# Altium schematic symbol library OBC_boardV1.SchLib: 97 symbols (part 2 of 2)
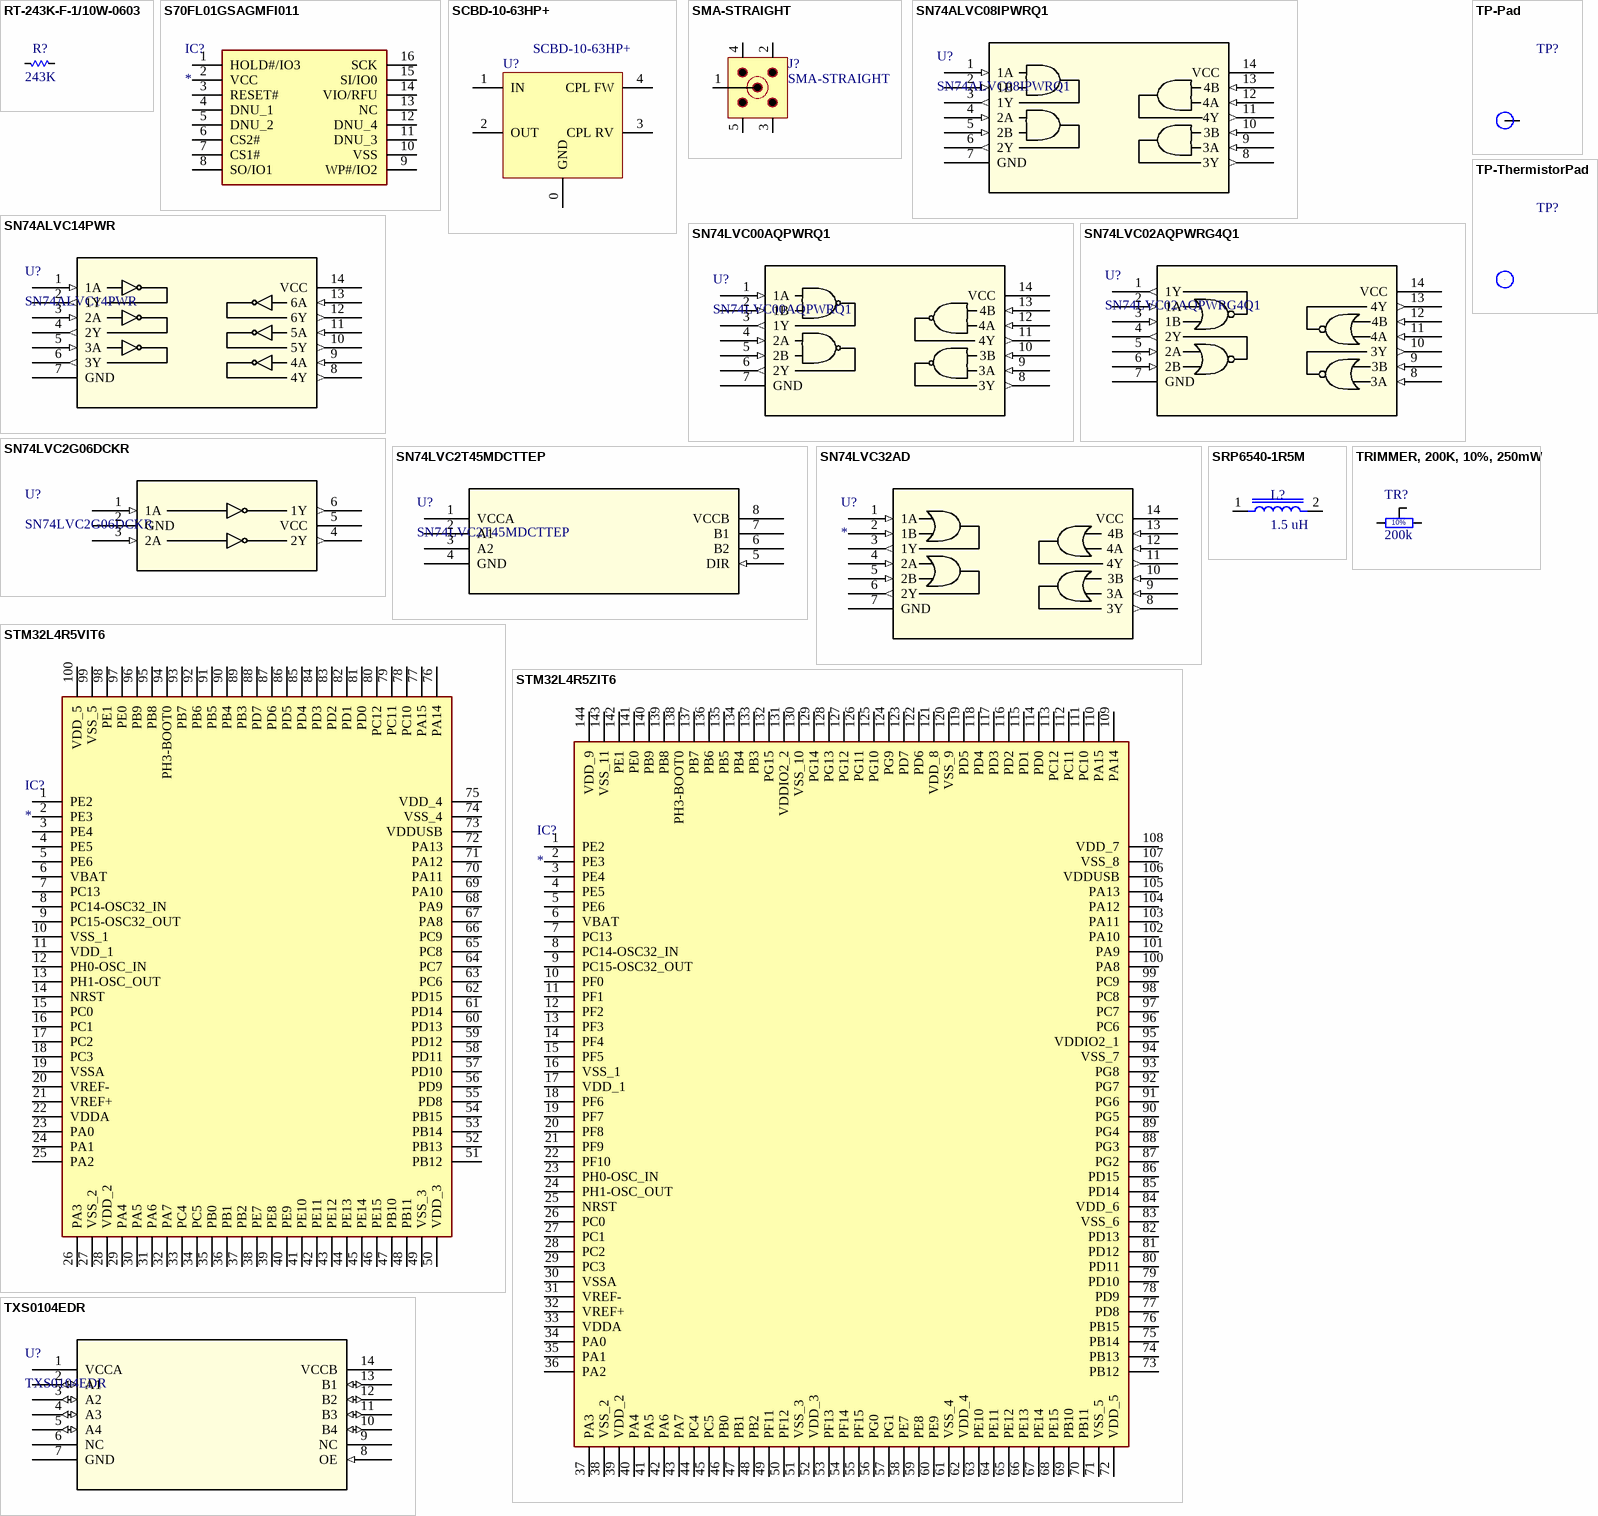
[diagram p3: symbols RT-243K-F-1/10W-0603 to TXS0104EDR]

## S70FL01GSAGMFI011
designator IC?
Integrated Circuit; Manufacturer_Name: Cypress Semiconductor; Manufacturer_Part_Number: S70FL01GSAGMFI011; Datasheet Link: http://www.cypress.com/file/233721/download; Height: 2.65mm; Mouser Part Number: 797-70FL01GSAGMFI011; Mouser Price/Stock: https://www.mouser.co.uk/ProductDetail/Cypress-Spansion/S70FL01GSAGMFI011?qs=7dLKRY2uEGfd5QhmKnP1mQ%3D%3D; Arrow Part Number: S70FL01GSAGMFI011; Arrow Price/Stock: https://www.arrow.com/en/products/s70fl01gsagmfi011/cypress-semiconductor
footprint SOIC127P1030X265-16N
pins: 1 HOLD#/IO3, 2 VCC, 3 RESET#, 4 DNU_1, 5 DNU_2, 6 CS2#, 7 CS1#, 8 SO/IO1, 9 WP#/IO2, 10 VSS, 11 DNU_3, 12 DNU_4, 13 NC, 14 VIO/RFU, 15 SI/IO0, 16 SCK

## SCBD-10-63HP+
designator U?
Bi-Directional Coupler 50 to 600MHz; Manufacturer 1: Mini-Circuit; Manufacturer Part Number 1: SCBD-10-63HP+; Supplier 1: Elexience; Supplier Part Number 1: SCBD-10-63HP+
footprint SCBD-10-63HP+
pins: 0 GND, 1 IN, 2 OUT, 3 CPL RV, 4 CPL FW

## SMA-STRAIGHT
designator J?
CONN SMA JACK STR 50 OHM PCB; Supplier 1: Digi-Key; Supplier Part Number 1: ARFX1231-ND
footprint SMA-STRAIGHT
pins: 1, 2, 3, 4, 5

## SN74ALVC08IPWRQ1
designator U?
Quadruple 2-Input Positive-AND Gate; Manufacturer: Texas Instruments; GENERIC_PART_NUMBER: SN74ALVC08-Q1; INDUSTRY_STD_PKG_TYPE: TSSOP; PIN_COUNT: 14; PACKAGE_DESIGNATOR: PW; Datasheet_URL: http://www.ti.com/lit/gpn/SN74ALVC08-Q1; FAMILY_NAME: AND GATE; Vendor: Texas Instruments; Manufacturer_Part_Number: SN74ALVC08IPWRQ1; Copyright: Copyright (C) 2021 Accelerated Designs. All rights reserved; RefDes: RefDes; Type: DEV
footprint PW14
pins: 1 1A (in), 2 1B (in), 3 1Y (out), 4 2A (in), 5 2B (in), 6 2Y (out), 7 GND (power), 8 3Y (out), 9 3A (in), 10 3B (in), 11 4Y (out), 12 4A (in), 13 4B (in), 14 VCC (power)

## SN74ALVC14PWR
designator U?
Hex Schmitt-Trigger Inverter; Manufacturer: Texas Instruments; INDUSTRY_STD_PKG_TYPE: TSSOP; FAMILY_NAME: INVERTING BUFFER/DRIVER; PIN_COUNT: 14; PACKAGE_DESIGNATOR: PW; Datasheet_URL: http://www.ti.com/lit/gpn/SN74ALVC14; GENERIC_PART_NUMBER: SN74ALVC14; Vendor: Texas Instruments; Manufacturer_Part_Number: SN74ALVC14PWR; Copyright: Copyright (C) 2021 Accelerated Designs. All rights reserved; RefDes: RefDes; Type: DEV
footprint PW14
pins: 1 1A (in), 2 1Y (out), 3 2A (in), 4 2Y (out), 5 3A (in), 6 3Y (out), 7 GND (power), 8 4Y (out), 9 4A (in), 10 5Y (out), 11 5A (in), 12 6Y (out), 13 6A (in), 14 VCC (power)

## SN74LVC00AQPWRQ1
designator U?
Automotive Catalog Quadruple 2-Input Positive-NAND Gate; Manufacturer: Texas Instruments; GENERIC_PART_NUMBER: SN74LVC00A-Q1; INDUSTRY_STD_PKG_TYPE: TSSOP; PIN_COUNT: 14; PACKAGE_DESIGNATOR: PW; Datasheet_URL: http://www.ti.com/lit/gpn/SN74LVC00A-Q1; FAMILY_NAME: NAND GATE; Vendor: Texas Instruments; Manufacturer_Part_Number: SN74LVC00AQPWRQ1; Copyright: Copyright (C) 2021 Accelerated Designs. All rights reserved; RefDes: RefDes; Type: DEV
footprint PW14
pins: 1 1A (in), 2 1B (in), 3 1Y (out), 4 2A (in), 5 2B (in), 6 2Y (out), 7 GND (power), 8 3Y (out), 9 3A (in), 10 3B (in), 11 4Y (out), 12 4A (in), 13 4B (in), 14 VCC (power)

## SN74LVC02AQPWRG4Q1
designator U?
Quadruple 2-Input Positive-NOR Gate; Manufacturer: Texas Instruments; GENERIC_PART_NUMBER: SN74LVC02A-Q1; INDUSTRY_STD_PKG_TYPE: TSSOP; PIN_COUNT: 14; PACKAGE_DESIGNATOR: PW; Datasheet_URL: http://www.ti.com/lit/gpn/SN74LVC02A-Q1; FAMILY_NAME: NOR GATE; Vendor: Texas Instruments; Manufacturer_Part_Number: SN74LVC02AQPWRG4Q1; Copyright: Copyright (C) 2021 Accelerated Designs. All rights reserved; RefDes: RefDes; Type: DEV
footprint PW14
pins: 1 1Y (out), 2 1A (in), 3 1B (in), 4 2Y (out), 5 2A (in), 6 2B (in), 7 GND (power), 8 3A (in), 9 3B (in), 10 3Y (out), 11 4A (in), 12 4B (in), 13 4Y (out), 14 VCC (power)

## SN74LVC2G06DCKR
designator U?
Dual Inverter Buffer/Driver with Open-Drain Output; Manufacturer: Texas Instruments; INDUSTRY_STD_PKG_TYPE: SC70; FAMILY_NAME: LL INVERTING BUFFER AND DRIVER; PIN_COUNT: 6; PACKAGE_DESIGNATOR: DCK; Datasheet_URL: http://www.ti.com/lit/gpn/SN74LVC2G06; GENERIC_PART_NUMBER: SN74LVC2G06; Vendor: Texas Instruments; Manufacturer_Part_Number: SN74LVC2G06DCKR; Copyright: Copyright (C) 2021 Accelerated Designs. All rights reserved; RefDes: RefDes; Type: DEV
footprint DCK6
pins: 1 1A (in), 2 GND (power), 3 2A (in), 4 2Y (out), 5 VCC (power), 6 1Y (out)

## SN74LVC2T45MDCTTEP
designator U?
No Description Available; Manufactuer: Texas Instruments; Copyright: Copyright (C) 2021 Ultra Librarian. All rights reserved.; Manufacturer Part Number: SN74LVC2T45MDCTTEP; Distributor Part Number: 296-23952-1-ND; RefDes: RefDes; Type: DEV
footprint DCT8
pins: 1 VCCA (power), 2 A1, 3 A2, 4 GND (power), 5 DIR (in), 6 B2, 7 B1, 8 VCCB (power)

## SN74LVC32AD
designator U?
Quadruple 2-Input Positive-OR Gate; Manufacturer: Texas Instruments; GENERIC_PART_NUMBER: SN74LVC32A; INDUSTRY_STD_PKG_TYPE: SOIC; FAMILY_NAME: OR GATE; PIN_COUNT: 14; PACKAGE_DESIGNATOR: D; Datasheet_URL: http://www.ti.com/lit/gpn/SN74LVC32A; Copyright: Copyright (C) 2021 Accelerated Designs. All rights reserved; RefDes: RefDes; Type: DEV
footprint D14
pins: 1 1A (in), 2 1B (in), 3 1Y (out), 4 2A (in), 5 2B (in), 6 2Y (out), 7 GND (power), 8 3Y (out), 9 3A (in), 10 3B (in), 11 4Y (out), 12 4A (in), 13 4B (in), 14 VCC (power)

## SRP6540-1R5M
designator L?, comment 1.5 uH
1.5µH Shielded Wirewound Inductor 11A 10mOhm Max Nonstandard; MF: Bourns; MP: SRP6540-1R5M; Digi-Key_Part_Number: SRP6540-1R5MCT-ND; Check_prices: https://www.snapeda.com/parts/SRP6540-1R5M/Bourns/view-part/583735/?ref=eda; Value: *; Package: Nonstandard Bourns; SnapEDA_Link: https://www.snapeda.com/parts/SRP6540-1R5M/Bourns/view-part/583735/?ref=snap
footprint IND_SRP6540-1R5M
pins: 1, 2

## STM32L4R5VIT6
designator IC?
Integrated Circuit; Manufacturer_Name: STMicroelectronics; Manufacturer_Part_Number: STM32L4R5VIT6; Datasheet Link: http://www.st.com/resource/en/datasheet/stm32l4r5vi.pdf; Height: 1.6mm; Mouser Part Number: 511-STM32L4R5VIT6; Mouser Price/Stock: https://www.mouser.co.uk/ProductDetail/STMicroelectronics/STM32L4R5VIT6?qs=wd5RIQLrsJh4jWYM%2FxWvOw%3D%3D; Arrow Part Number: STM32L4R5VIT6; Arrow Price/Stock: https://www.arrow.com/en/products/stm32l4r5vit6/stmicroelectronics
footprint QFP50P1600X1600X160-100N
pins: 1 PE2, 2 PE3, 3 PE4, 4 PE5, 5 PE6, 6 VBAT, 7 PC13, 8 PC14-OSC32_IN, 9 PC15-OSC32_OUT, 10 VSS_1, 11 VDD_1, 12 PH0-OSC_IN, 13 PH1-OSC_OUT, 14 NRST, 15 PC0, 16 PC1, 17 PC2, 18 PC3, 19 VSSA, 20 VREF-, 21 VREF+, 22 VDDA, 23 PA0, 24 PA1, 25 PA2, 26 PA3, 27 VSS_2, 28 VDD_2, 29 PA4, 30 PA5, 31 PA6, 32 PA7, 33 PC4, 34 PC5, 35 PB0, 36 PB1, 37 PB2, 38 PE7, 39 PE8, 40 PE9, 41 PE10, 42 PE11, 43 PE12, 44 PE13, 45 PE14, 46 PE15, 47 PB10, 48 PB11, 49 VSS_3, 50 VDD_3, 51 PB12, 52 PB13, 53 PB14, 54 PB15, 55 PD8, 56 PD9, 57 PD10, 58 PD11, 59 PD12, 60 PD13, 61 PD14, 62 PD15, 63 PC6, 64 PC7, 65 PC8, 66 PC9, 67 PA8, 68 PA9, 69 PA10, 70 PA11, 71 PA12, 72 PA13, 73 VDDUSB, 74 VSS_4, 75 VDD_4, 76 PA14, 77 PA15, 78 PC10, 79 PC11, 80 PC12, 81 PD0, 82 PD1, 83 PD2, 84 PD3, 85 PD4, 86 PD5, 87 PD6, 88 PD7, 89 PB3, 90 PB4, 91 PB5, 92 PB6, 93 PB7, 94 PH3-BOOT0, 95 PB8, 96 PB9, 97 PE0, 98 PE1, 99 VSS_5, 100 VDD_5

## STM32L4R5ZIT6
designator IC?
Integrated Circuit; Manufacturer_Name: ST; Manufacturer_Part_Number: STM32L4R5ZIT6; Datasheet Link: https://www.st.com/resource/en/datasheet/stm32l4r5zi.pdf; Height: 1.6mm
footprint QFP50P2200X2200X160-144N
pins: 1 PE2, 2 PE3, 3 PE4, 4 PE5, 5 PE6, 6 VBAT, 7 PC13, 8 PC14-OSC32_IN, 9 PC15-OSC32_OUT, 10 PF0, 11 PF1, 12 PF2, 13 PF3, 14 PF4, 15 PF5, 16 VSS_1, 17 VDD_1, 18 PF6, 19 PF7, 20 PF8, 21 PF9, 22 PF10, 23 PH0-OSC_IN, 24 PH1-OSC_OUT, 25 NRST, 26 PC0, 27 PC1, 28 PC2, 29 PC3, 30 VSSA, 31 VREF-, 32 VREF+, 33 VDDA, 34 PA0, 35 PA1, 36 PA2, 37 PA3, 38 VSS_2, 39 VDD_2, 40 PA4, 41 PA5, 42 PA6, 43 PA7, 44 PC4, 45 PC5, 46 PB0, 47 PB1, 48 PB2, 49 PF11, 50 PF12, 51 VSS_3, 52 VDD_3, 53 PF13, 54 PF14, 55 PF15, 56 PG0, 57 PG1, 58 PE7, 59 PE8, 60 PE9, 61 VSS_4, 62 VDD_4, 63 PE10, 64 PE11, 65 PE12, 66 PE13, 67 PE14, 68 PE15, 69 PB10, 70 PB11, 71 VSS_5, 72 VDD_5, 73 PB12, 74 PB13, 75 PB14, 76 PB15, 77 PD8, 78 PD9, 79 PD10, 80 PD11, 81 PD12, 82 PD13, 83 VSS_6, 84 VDD_6, 85 PD14, 86 PD15, 87 PG2, 88 PG3, 89 PG4, 90 PG5, 91 PG6, 92 PG7, 93 PG8, 94 VSS_7, 95 VDDIO2_1, 96 PC6, 97 PC7, 98 PC8, 99 PC9, 100 PA8, 101 PA9, 102 PA10, 103 PA11, 104 PA12, 105 PA13, 106 VDDUSB, 107 VSS_8, 108 VDD_7, 109 PA14, 110 PA15, 111 PC10, 112 PC11, 113 PC12, 114 PD0, 115 PD1, 116 PD2, 117 PD3, 118 PD4, 119 PD5, 120 VSS_9, 121 VDD_8, 122 PD6, 123 PD7, 124 PG9, 125 PG10, 126 PG11, 127 PG12, 128 PG13, 129 PG14, 130 VSS_10, 131 VDDIO2_2, 132 PG15, 133 PB3, 134 PB4, 135 PB5, 136 PB6, 137 PB7, 138 PH3-BOOT0, 139 PB8, 140 PB9, 141 PE0, 142 PE1, 143 VSS_11, 144 VDD_9

## TP-Pad
designator TP?, comment .designator  (value not drawn)
PCB Test Point; Value: TP; ComponentLink1Description: Datasheet; ComponentLink1URL: https://www.keyelco.com/userAssets/file/M65p33.pdf; ComponentLink2Description: Manufacturer Website; Part Description: PCB Test Point; Alternate Distributor Part #: *; Alternate Manufacturer: *; Alternate Manufacturer Part #: *
footprint TP-PCB Pad 4mm x 4mm
pins: TP

## TP-ThermistorPad
designator TP?, comment .designator  (value not drawn)
PCB Test Point; Value: TP; ComponentLink1Description: Datasheet; ComponentLink1URL: https://www.keyelco.com/userAssets/file/M65p33.pdf; ComponentLink2Description: Manufacturer Website; Part Description: PCB Test Point; Alternate Distributor Part #: *; Alternate Manufacturer: *; Alternate Manufacturer Part #: *
footprint TP-PCB Pad (TP-PCB Pad 5mm x 5mm)
pins: TP

## TRIMMER, 200K, 10%, 250mW
designator TR?, comment 200k
TRIMMER 200K OHM 0.25W SMD; Supplier 1: Farnell; Supplier 2: Mouser; Supplier 3: Digi-Key; Supplier Part Number 1: 1787542; Supplier Part Number 2: 652-3224X-1-204E; Supplier Part Number 3: 3224X-1-204ECT-ND
footprint TRIMMER SMD
pins: 1 CCW, 2 WIPER, 3 CC
text: 10%

## TXS0104EDR
designator U?
4-Bit Bidirectional Voltage-Level Translator for Open-Drain Applications; Vendor: Texas Instruments; PACKAGE_DESIGNATOR: D; PIN_COUNT: 14; FAMILY_NAME: AUTO DIRECTION SENSING DUAL SUPPLY TRANSLATOR; INDUSTRY_STD_PKG_TYPE: SOIC; Manufacturer_Part_Number: TXS0104EDR; GENERIC_PART_NUMBER: TXS0104E; Datasheet_URL: http://www.ti.com/lit/gpn/TXS0104E; Manufacturer: Texas Instruments; Copyright: Copyright (C) 2021 Accelerated Designs. All rights reserved; RefDes: RefDes; Type: DEV
footprint D14
pins: 1 VCCA (power), 2 A1 (io), 3 A2 (io), 4 A3 (io), 5 A4 (io), 6 NC, 7 GND (power), 8 OE (in), 9 NC, 10 B4 (io), 11 B3 (io), 12 B2 (io), 13 B1 (io), 14 VCCB (power)